# Altium footprint library Con DIN 41612.PcbLib: 47 footprints (part 3 of 3)
Each footprint in its own frame and in the unit in brackets; x right, y up, seen from the top. Pads: shape width x height; smd on the part's side, far side on the other; paste and mask are expansions set on the pad; w line width, h text height; cw(c..) or ccw(c..) is an arc to the next point about the centre after c.
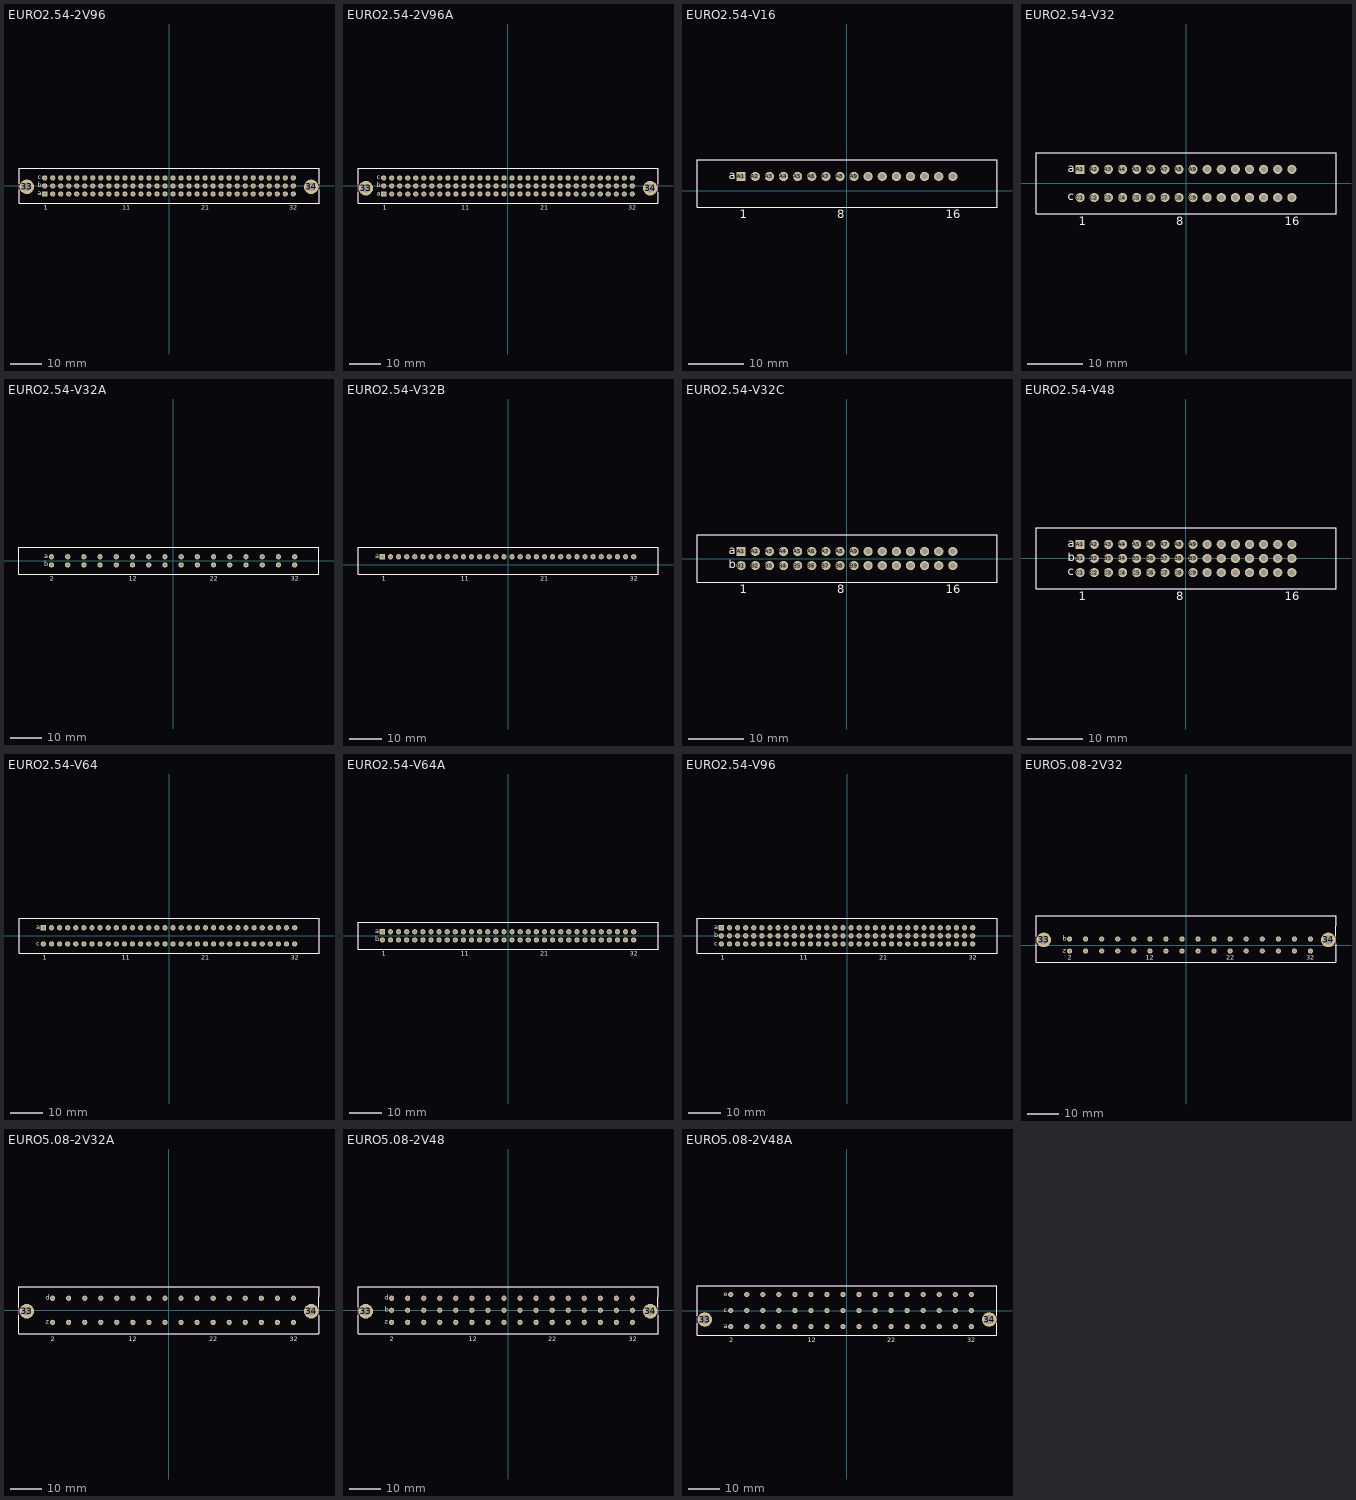
[diagram p2: the footprints below, top view; thin cyan lines are the x and y axes]

## EURO2.54-2V96 [mm] "Connector; DIN 41612, Type C, Thru-Hole; Rows a+b+c, 96 Position; Vertical"
height 11.6
pads (98):
  round 4.6 hole 2.8: 33(-45,-0.3) 34(45,-0.3)
  rect 1.65x1.65 hole 1: A1(-39.37,-2.54)
  round 1.65 hole 1: A2(-36.83,-2.54) A3(-34.29,-2.54) A4(-31.75,-2.54) A5(-29.21,-2.54) A6(-26.67,-2.54) A7(-24.13,-2.54) A8(-21.59,-2.54) A9(-19.05,-2.54) A10(-16.51,-2.54) A11(-13.97,-2.54) A12(-11.43,-2.54) A13(-8.89,-2.54) A14(-6.35,-2.54) A15(-3.81,-2.54) A16(-1.27,-2.54) A17(1.27,-2.54) A18(3.81,-2.54) A19(6.35,-2.54) A20(8.89,-2.54) A21(11.43,-2.54) A22(13.97,-2.54) A23(16.51,-2.54) A24(19.05,-2.54) A25(21.59,-2.54) A26(24.13,-2.54) A27(26.67,-2.54) A28(29.21,-2.54) A29(31.75,-2.54) A30(34.29,-2.54) A31(36.83,-2.54) A32(39.37,-2.54) B1(-39.37,0) B2(-36.83,0) B3(-34.29,0) B4(-31.75,0) B5(-29.21,0) B6(-26.67,0) B7(-24.13,0) B8(-21.59,0) B9(-19.05,0) B10(-16.51,0) B11(-13.97,0) B12(-11.43,0) B13(-8.89,0) B14(-6.35,0) B15(-3.81,0) B16(-1.27,0) B17(1.27,0) B18(3.81,0) B19(6.35,0) B20(8.89,0) B21(11.43,0) B22(13.97,0) B23(16.51,0) B24(19.05,0) B25(21.59,0) B26(24.13,0) B27(26.67,0) B28(29.21,0) B29(31.75,0) B30(34.29,0) B31(36.83,0) B32(39.37,0) C1(-39.37,2.54) C2(-36.83,2.54) C3(-34.29,2.54) C4(-31.75,2.54) C5(-29.21,2.54) C6(-26.67,2.54) C7(-24.13,2.54) C8(-21.59,2.54) C9(-19.05,2.54) C10(-16.51,2.54) C11(-13.97,2.54) C12(-11.43,2.54) C13(-8.89,2.54) C14(-6.35,2.54) C15(-3.81,2.54) C16(-1.27,2.54) C17(1.27,2.54) C18(3.81,2.54) C19(6.35,2.54) C20(8.89,2.54) C21(11.43,2.54) C22(13.97,2.54) C23(16.51,2.54) C24(19.05,2.54) C25(21.59,2.54) C26(24.13,2.54) C27(26.67,2.54) C28(29.21,2.54) C29(31.75,2.54) C30(34.29,2.54) C31(36.83,2.54) C32(39.37,2.54)
Top Overlay:
  lines w0.2: -47.5,-1.3 -47.5,-5.55 47.5,-5.55 47.5,-1.3 ; -47.5,0.7 -47.5,5.55 47.5,5.55 47.5,0.7
  text "1" at -39.62,-7.525 h1.5
  text "a" at -41.58,-3.04 h1.5
  text "b" at -41.58,-0.5 h1.5
  text "c" at -41.58,2.04 h1.5
  text "32" at 38.12,-7.525 h1.5
  text "11" at -14.82,-7.525 h1.5
  text "21" at 10.18,-7.525 h1.5
Mechanical 13:
  lines w0.1: -47.5,-5.55 -47.5,5.55 47.5,5.55 47.5,-5.55 -47.5,-5.55
3D body: height 11.6, standoff 0, extent -47.5,-5.55 47.5,5.55

## EURO2.54-2V96A [mm] "Connector; DIN 41612, Type R, Thru-Hole; Rows a+b+c, 96 Position; Vertical"
height 11.6
pads (98):
  round 4.6 hole 2.8: 33(-45,-0.73) 34(45,-0.73)
  rect 1.65x1.65 hole 1: A1(-39.37,-2.54)
  round 1.65 hole 1: A2(-36.83,-2.54) A3(-34.29,-2.54) A4(-31.75,-2.54) A5(-29.21,-2.54) A6(-26.67,-2.54) A7(-24.13,-2.54) A8(-21.59,-2.54) A9(-19.05,-2.54) A10(-16.51,-2.54) A11(-13.97,-2.54) A12(-11.43,-2.54) A13(-8.89,-2.54) A14(-6.35,-2.54) A15(-3.81,-2.54) A16(-1.27,-2.54) A17(1.27,-2.54) A18(3.81,-2.54) A19(6.35,-2.54) A20(8.89,-2.54) A21(11.43,-2.54) A22(13.97,-2.54) A23(16.51,-2.54) A24(19.05,-2.54) A25(21.59,-2.54) A26(24.13,-2.54) A27(26.67,-2.54) A28(29.21,-2.54) A29(31.75,-2.54) A30(34.29,-2.54) A31(36.83,-2.54) A32(39.37,-2.54) B1(-39.37,0) B2(-36.83,0) B3(-34.29,0) B4(-31.75,0) B5(-29.21,0) B6(-26.67,0) B7(-24.13,0) B8(-21.59,0) B9(-19.05,0) B10(-16.51,0) B11(-13.97,0) B12(-11.43,0) B13(-8.89,0) B14(-6.35,0) B15(-3.81,0) B16(-1.27,0) B17(1.27,0) B18(3.81,0) B19(6.35,0) B20(8.89,0) B21(11.43,0) B22(13.97,0) B23(16.51,0) B24(19.05,0) B25(21.59,0) B26(24.13,0) B27(26.67,0) B28(29.21,0) B29(31.75,0) B30(34.29,0) B31(36.83,0) B32(39.37,0) C1(-39.37,2.54) C2(-36.83,2.54) C3(-34.29,2.54) C4(-31.75,2.54) C5(-29.21,2.54) C6(-26.67,2.54) C7(-24.13,2.54) C8(-21.59,2.54) C9(-19.05,2.54) C10(-16.51,2.54) C11(-13.97,2.54) C12(-11.43,2.54) C13(-8.89,2.54) C14(-6.35,2.54) C15(-3.81,2.54) C16(-1.27,2.54) C17(1.27,2.54) C18(3.81,2.54) C19(6.35,2.54) C20(8.89,2.54) C21(11.43,2.54) C22(13.97,2.54) C23(16.51,2.54) C24(19.05,2.54) C25(21.59,2.54) C26(24.13,2.54) C27(26.67,2.54) C28(29.21,2.54) C29(31.75,2.54) C30(34.29,2.54) C31(36.83,2.54) C32(39.37,2.54)
Top Overlay:
  lines w0.2: -47.5,-1.93 -47.5,-5.55 47.5,-5.55 47.5,-1.93 ; -47.5,0.47 -47.5,5.55 47.5,5.55 47.5,0.47
  text "21" at 10.18,-7.5 h1.5
  text "11" at -14.82,-7.5 h1.5
  text "32" at 38.12,-7.5 h1.5
  text "c" at -41.58,2.04 h1.5
  text "b" at -41.58,-0.5 h1.5
  text "a" at -41.58,-3.04 h1.5
  text "1" at -39.62,-7.5 h1.5
Mechanical 13:
  lines w0.1: -47.5,-5.55 -47.5,5.55 47.5,5.55 47.5,-5.55 -47.5,-5.55
3D body: height 11.6, standoff 0, extent -47.5,-5.55 47.5,5.55

## EURO2.54-V16 [mm] "Connector; DIN 41612, Type 2B, Thru-Hole; Row a, 16 Position; Vertical, No Mounting Fixture"
height 13
pads (16):
  rect 1.65x1.65 hole 1: A1(-19.05,2.54)
  round 1.65 hole 1: A2(-16.51,2.54) A3(-13.97,2.54) A4(-11.43,2.54) A5(-8.89,2.54) A6(-6.35,2.54) A7(-3.81,2.54) A8(-1.27,2.54) A9(1.27,2.54) A10(3.81,2.54) A11(6.35,2.54) A12(8.89,2.54) A13(11.43,2.54) A14(13.97,2.54) A15(16.51,2.54) A16(19.05,2.54)
Top Overlay:
  lines w0.2: -27,-2.98 27,-2.98 27,5.52 -27,5.52 -27,-2.98
  text "a" at -21.26,2.04 h1.5
  text "16" at 17.8,-4.96 h1.5
  text "8" at -1.77,-4.96 h1.5
  text "1" at -19.3,-4.96 h1.5
Mechanical 13:
  lines w0.1: -27,-2.98 -27,5.52 27,5.52 27,-2.98 -27,-2.98
3D body: height 13, standoff 0, extent -27,-2.98 27,5.52

## EURO2.54-V32 [mm] "Connector; DIN 41612, Type 2C, Thru-Hole; Rows a+c, 32 Position; Vertical, No Mounting Fixture"
height 13
pads (32):
  rect 1.65x1.65 hole 1: A1(-19.05,2.54)
  round 1.65 hole 1: A2(-16.51,2.54) A3(-13.97,2.54) A4(-11.43,2.54) A5(-8.89,2.54) A6(-6.35,2.54) A7(-3.81,2.54) A8(-1.27,2.54) A9(1.27,2.54) A10(3.81,2.54) A11(6.35,2.54) A12(8.89,2.54) A13(11.43,2.54) A14(13.97,2.54) A15(16.51,2.54) A16(19.05,2.54) C1(-19.05,-2.54) C2(-16.51,-2.54) C3(-13.97,-2.54) C4(-11.43,-2.54) C5(-8.89,-2.54) C6(-6.35,-2.54) C7(-3.81,-2.54) C8(-1.27,-2.54) C9(1.27,-2.54) C10(3.81,-2.54) C11(6.35,-2.54) C12(8.89,-2.54) C13(11.43,-2.54) C14(13.97,-2.54) C15(16.51,-2.54) C16(19.05,-2.54)
Top Overlay:
  lines w0.2: -27,-5.5 27,-5.5 27,5.5 -27,5.5 -27,-5.5
  text "16" at 17.8,-7.5 h1.5
  text "8" at -1.77,-7.5 h1.5
  text "c" at -21.26,-3.04 h1.5
  text "a" at -21.26,2.04 h1.5
  text "1" at -19.3,-7.5 h1.5
Mechanical 13:
  lines w0.1: -27,-5.5 -27,5.5 27,5.5 27,-5.5 -27,-5.5
3D body: height 13, standoff 0, extent -27,-5.5 27,5.5

## EURO2.54-V32A [mm] "Connector; DIN 41612, Type B, Thru-Hole; Rows a+b, 32 Position; Vertical, No Mounting Fixture"
height 13
pads (32):
  round 1.65 hole 1: A2(-38.1,1.27) A4(-33.02,1.27) A6(-27.94,1.27) A8(-22.86,1.27) A10(-17.78,1.27) A12(-12.7,1.27) A14(-7.62,1.27) A16(-2.54,1.27) A18(2.54,1.27) A20(7.62,1.27) A22(12.7,1.27) A24(17.78,1.27) A26(22.86,1.27) A28(27.94,1.27) A30(33.02,1.27) A32(38.1,1.27) B2(-38.1,-1.27) B4(-33.02,-1.27) B6(-27.94,-1.27) B8(-22.86,-1.27) B10(-17.78,-1.27) B12(-12.7,-1.27) B14(-7.62,-1.27) B16(-2.54,-1.27) B18(2.54,-1.27) B20(7.62,-1.27) B22(12.7,-1.27) B24(17.78,-1.27) B26(22.86,-1.27) B28(27.94,-1.27) B30(33.02,-1.27) B32(38.1,-1.27)
Top Overlay:
  lines w0.2: -48.27,-4.25 -48.27,4.25 45.73,4.25 45.73,-4.25 -48.27,-4.25
  text "22" at 11.45,-6.23 h1.5
  text "12" at -13.95,-6.23 h1.5
  text "32" at 36.85,-6.23 h1.5
  text "b" at -40.31,-1.77 h1.5
  text "a" at -40.31,0.77 h1.5
  text "2" at -38.6,-6.23 h1.5
Mechanical 13:
  lines w0.1: -48.27,-4.25 -48.27,4.25 45.73,4.25 45.73,-4.25 -48.27,-4.25
3D body: height 13, standoff 0, extent -48.27,-4.25 45.73,4.25

## EURO2.54-V32B [mm] "Connector; DIN 41612, Type B, Thru-Hole; Row a, 32 Position; Vertical, No Mounting Fixture"
height 13
pads (32):
  rect 1.65x1.65 hole 1: A1(-39.37,2.54)
  round 1.65 hole 1: A2(-36.83,2.54) A3(-34.29,2.54) A4(-31.75,2.54) A5(-29.21,2.54) A6(-26.67,2.54) A7(-24.13,2.54) A8(-21.59,2.54) A9(-19.05,2.54) A10(-16.51,2.54) A11(-13.97,2.54) A12(-11.43,2.54) A13(-8.89,2.54) A14(-6.35,2.54) A15(-3.81,2.54) A16(-1.27,2.54) A17(1.27,2.54) A18(3.81,2.54) A19(6.35,2.54) A20(8.89,2.54) A21(11.43,2.54) A22(13.97,2.54) A23(16.51,2.54) A24(19.05,2.54) A25(21.59,2.54) A26(24.13,2.54) A27(26.67,2.54) A28(29.21,2.54) A29(31.75,2.54) A30(34.29,2.54) A31(36.83,2.54) A32(39.37,2.54)
Top Overlay:
  lines w0.2: -47,-2.98 47,-2.98 47,5.52 -47,5.52 -47,-2.98
  text "a" at -41.58,2.04 h1.5
  text "1" at -39.62,-4.96 h1.5
  text "32" at 38.12,-4.96 h1.5
  text "11" at -14.82,-4.96 h1.5
  text "21" at 10.18,-4.96 h1.5
Mechanical 13:
  lines w0.1: -47,-2.98 -47,5.52 47,5.52 47,-2.98 -47,-2.98
3D body: height 13, standoff 0, extent -47,-2.98 47,5.52

## EURO2.54-V32C [mm] "Connector; DIN 41612, Type 2B, Thru-Hole; Rows a+b, 32 Position; Vertical, No Mounting Fixture"
height 13
pads (32):
  rect 1.65x1.65 hole 1: A1(-19.05,1.27)
  round 1.65 hole 1: A2(-16.51,1.27) A3(-13.97,1.27) A4(-11.43,1.27) A5(-8.89,1.27) A6(-6.35,1.27) A7(-3.81,1.27) A8(-1.27,1.27) A9(1.27,1.27) A10(3.81,1.27) A11(6.35,1.27) A12(8.89,1.27) A13(11.43,1.27) A14(13.97,1.27) A15(16.51,1.27) A16(19.05,1.27) B1(-19.05,-1.27) B2(-16.51,-1.27) B3(-13.97,-1.27) B4(-11.43,-1.27) B5(-8.89,-1.27) B6(-6.35,-1.27) B7(-3.81,-1.27) B8(-1.27,-1.27) B9(1.27,-1.27) B10(3.81,-1.27) B11(6.35,-1.27) B12(8.89,-1.27) B13(11.43,-1.27) B14(13.97,-1.27) B15(16.51,-1.27) B16(19.05,-1.27)
Top Overlay:
  lines w0.2: -27,-4.25 -27,4.25 27,4.25 27,-4.25 -27,-4.25
  text "1" at -19.3,-6.23 h1.5
  text "a" at -21.26,0.77 h1.5
  text "b" at -21.26,-1.77 h1.5
  text "8" at -1.77,-6.23 h1.5
  text "16" at 17.8,-6.23 h1.5
Mechanical 13:
  lines w0.1: -27,-4.25 -27,4.25 27,4.25 27,-4.25 -27,-4.25
3D body: height 13, standoff 0, extent -27,-4.25 27,4.25

## EURO2.54-V48 [mm] "Connector; DIN 41612, Type 2C, Thru-Hole; Rows a+b+c, 48 Position; Vertical, No Mounting Fixture"
height 13
pads (48):
  rect 1.65x1.65 hole 1: A1(-19.05,2.54)
  round 1.65 hole 1: A2(-16.51,2.54) A3(-13.97,2.54) A4(-11.43,2.54) A5(-8.89,2.54) A6(-6.35,2.54) A7(-3.81,2.54) A8(-1.27,2.54) A9(1.27,2.54) A10(3.81,2.54) A11(6.35,2.54) A12(8.89,2.54) A13(11.43,2.54) A14(13.97,2.54) A15(16.51,2.54) A16(19.05,2.54) B1(-19.05,0) B2(-16.51,0) B3(-13.97,0) B4(-11.43,0) B5(-8.89,0) B6(-6.35,0) B7(-3.81,0) B8(-1.27,0) B9(1.27,0) B10(3.81,0) B11(6.35,0) B12(8.89,0) B13(11.43,0) B14(13.97,0) B15(16.51,0) B16(19.05,0) C1(-19.05,-2.54) C2(-16.51,-2.54) C3(-13.97,-2.54) C4(-11.43,-2.54) C5(-8.89,-2.54) C6(-6.35,-2.54) C7(-3.81,-2.54) C8(-1.27,-2.54) C9(1.27,-2.54) C10(3.81,-2.54) C11(6.35,-2.54) C12(8.89,-2.54) C13(11.43,-2.54) C14(13.97,-2.54) C15(16.51,-2.54) C16(19.05,-2.54)
Top Overlay:
  lines w0.2: -27,-5.5 27,-5.5 27,5.5 -27,5.5 -27,-5.5
  text "16" at 17.8,-7.5 h1.5
  text "8" at -1.77,-7.5 h1.5
  text "c" at -21.26,-3.04 h1.5
  text "b" at -21.26,-0.5 h1.5
  text "a" at -21.26,2.04 h1.5
  text "1" at -19.3,-7.5 h1.5
Mechanical 13:
  lines w0.1: -27,-5.5 -27,5.5 27,5.5 27,-5.5 -27,-5.5
3D body: height 13, standoff 0, extent -27,-5.5 27,5.5

## EURO2.54-V64 [mm] "Connector; DIN 41612, Type C, Thru-Hole; Rows a+c, 64 Position; Vertical; No Mounting Fixture"
height 13
pads (64):
  rect 1.65x1.65 hole 1: A1(-39.37,2.54)
  round 1.65 hole 1: A2(-36.83,2.54) A3(-34.29,2.54) A4(-31.75,2.54) A5(-29.21,2.54) A6(-26.67,2.54) A7(-24.13,2.54) A8(-21.59,2.54) A9(-19.05,2.54) A10(-16.51,2.54) A11(-13.97,2.54) A12(-11.43,2.54) A13(-8.89,2.54) A14(-6.35,2.54) A15(-3.81,2.54) A16(-1.27,2.54) A17(1.27,2.54) A18(3.81,2.54) A19(6.35,2.54) A20(8.89,2.54) A21(11.43,2.54) A22(13.97,2.54) A23(16.51,2.54) A24(19.05,2.54) A25(21.59,2.54) A26(24.13,2.54) A27(26.67,2.54) A28(29.21,2.54) A29(31.75,2.54) A30(34.29,2.54) A31(36.83,2.54) A32(39.37,2.54) C1(-39.37,-2.54) C2(-36.83,-2.54) C3(-34.29,-2.54) C4(-31.75,-2.54) C5(-29.21,-2.54) C6(-26.67,-2.54) C7(-24.13,-2.54) C8(-21.59,-2.54) C9(-19.05,-2.54) C10(-16.51,-2.54) C11(-13.97,-2.54) C12(-11.43,-2.54) C13(-8.89,-2.54) C14(-6.35,-2.54) C15(-3.81,-2.54) C16(-1.27,-2.54) C17(1.27,-2.54) C18(3.81,-2.54) C19(6.35,-2.54) C20(8.89,-2.54) C21(11.43,-2.54) C22(13.97,-2.54) C23(16.51,-2.54) C24(19.05,-2.54) C25(21.59,-2.54) C26(24.13,-2.54) C27(26.67,-2.54) C28(29.21,-2.54) C29(31.75,-2.54) C30(34.29,-2.54) C31(36.83,-2.54) C32(39.37,-2.54)
Top Overlay:
  lines w0.2: -47,-5.5 47,-5.5 47,5.5 -47,5.5 -47,-5.5
  text "1" at -39.62,-7.5 h1.5
  text "a" at -41.58,2.04 h1.5
  text "c" at -41.58,-3.04 h1.5
  text "32" at 38.12,-7.5 h1.5
  text "11" at -14.82,-7.5 h1.5
  text "21" at 10.18,-7.5 h1.5
Mechanical 13:
  lines w0.1: -47,-5.5 -47,5.5 47,5.5 47,-5.5 -47,-5.5
3D body: height 13, standoff 0, extent -47,-5.5 47,5.5

## EURO2.54-V64A [mm] "Connector; DIN 41612, Type B, Thru-Hole; Rows a+b, 64 Position; Vertical, No Mounting Fixture"
height 13
pads (64):
  rect 1.65x1.65 hole 1: A1(-39.37,1.27)
  round 1.65 hole 1: A2(-36.83,1.27) A3(-34.29,1.27) A4(-31.75,1.27) A5(-29.21,1.27) A6(-26.67,1.27) A7(-24.13,1.27) A8(-21.59,1.27) A9(-19.05,1.27) A10(-16.51,1.27) A11(-13.97,1.27) A12(-11.43,1.27) A13(-8.89,1.27) A14(-6.35,1.27) A15(-3.81,1.27) A16(-1.27,1.27) A17(1.27,1.27) A18(3.81,1.27) A19(6.35,1.27) A20(8.89,1.27) A21(11.43,1.27) A22(13.97,1.27) A23(16.51,1.27) A24(19.05,1.27) A25(21.59,1.27) A26(24.13,1.27) A27(26.67,1.27) A28(29.21,1.27) A29(31.75,1.27) A30(34.29,1.27) A31(36.83,1.27) A32(39.37,1.27) B1(-39.37,-1.27) B2(-36.83,-1.27) B3(-34.29,-1.27) B4(-31.75,-1.27) B5(-29.21,-1.27) B6(-26.67,-1.27) B7(-24.13,-1.27) B8(-21.59,-1.27) B9(-19.05,-1.27) B10(-16.51,-1.27) B11(-13.97,-1.27) B12(-11.43,-1.27) B13(-8.89,-1.27) B14(-6.35,-1.27) B15(-3.81,-1.27) B16(-1.27,-1.27) B17(1.27,-1.27) B18(3.81,-1.27) B19(6.35,-1.27) B20(8.89,-1.27) B21(11.43,-1.27) B22(13.97,-1.27) B23(16.51,-1.27) B24(19.05,-1.27) B25(21.59,-1.27) B26(24.13,-1.27) B27(26.67,-1.27) B28(29.21,-1.27) B29(31.75,-1.27) B30(34.29,-1.27) B31(36.83,-1.27) B32(39.37,-1.27)
Top Overlay:
  lines w0.2: -47,-4.25 -47,4.25 47,4.25 47,-4.25 -47,-4.25
  text "21" at 10.18,-6.23 h1.5
  text "11" at -14.82,-6.23 h1.5
  text "32" at 38.12,-6.23 h1.5
  text "b" at -41.58,-1.77 h1.5
  text "a" at -41.58,0.77 h1.5
  text "1" at -39.62,-6.23 h1.5
Mechanical 13:
  lines w0.1: -47,-4.25 -47,4.25 47,4.25 47,-4.25 -47,-4.25
3D body: height 13, standoff 0, extent -47,-4.25 47,4.25

## EURO2.54-V96 [mm] "Connector; DIN 41612, Type C, Thru-Hole; Rows a+b+c, 96 Position; Vertical; No Mounting Fixture"
height 13
pads (96):
  rect 1.65x1.65 hole 1: A1(-39.37,2.54)
  round 1.65 hole 1: A2(-36.83,2.54) A3(-34.29,2.54) A4(-31.75,2.54) A5(-29.21,2.54) A6(-26.67,2.54) A7(-24.13,2.54) A8(-21.59,2.54) A9(-19.05,2.54) A10(-16.51,2.54) A11(-13.97,2.54) A12(-11.43,2.54) A13(-8.89,2.54) A14(-6.35,2.54) A15(-3.81,2.54) A16(-1.27,2.54) A17(1.27,2.54) A18(3.81,2.54) A19(6.35,2.54) A20(8.89,2.54) A21(11.43,2.54) A22(13.97,2.54) A23(16.51,2.54) A24(19.05,2.54) A25(21.59,2.54) A26(24.13,2.54) A27(26.67,2.54) A28(29.21,2.54) A29(31.75,2.54) A30(34.29,2.54) A31(36.83,2.54) A32(39.37,2.54) B1(-39.37,0) B2(-36.83,0) B3(-34.29,0) B4(-31.75,0) B5(-29.21,0) B6(-26.67,0) B7(-24.13,0) B8(-21.59,0) B9(-19.05,0) B10(-16.51,0) B11(-13.97,0) B12(-11.43,0) B13(-8.89,0) B14(-6.35,0) B15(-3.81,0) B16(-1.27,0) B17(1.27,0) B18(3.81,0) B19(6.35,0) B20(8.89,0) B21(11.43,0) B22(13.97,0) B23(16.51,0) B24(19.05,0) B25(21.59,0) B26(24.13,0) B27(26.67,0) B28(29.21,0) B29(31.75,0) B30(34.29,0) B31(36.83,0) B32(39.37,0) C1(-39.37,-2.54) C2(-36.83,-2.54) C3(-34.29,-2.54) C4(-31.75,-2.54) C5(-29.21,-2.54) C6(-26.67,-2.54) C7(-24.13,-2.54) C8(-21.59,-2.54) C9(-19.05,-2.54) C10(-16.51,-2.54) C11(-13.97,-2.54) C12(-11.43,-2.54) C13(-8.89,-2.54) C14(-6.35,-2.54) C15(-3.81,-2.54) C16(-1.27,-2.54) C17(1.27,-2.54) C18(3.81,-2.54) C19(6.35,-2.54) C20(8.89,-2.54) C21(11.43,-2.54) C22(13.97,-2.54) C23(16.51,-2.54) C24(19.05,-2.54) C25(21.59,-2.54) C26(24.13,-2.54) C27(26.67,-2.54) C28(29.21,-2.54) C29(31.75,-2.54) C30(34.29,-2.54) C31(36.83,-2.54) C32(39.37,-2.54)
Top Overlay:
  lines w0.2: -47,-5.5 -47,5.5 47,5.5 47,-5.5 -47,-5.5
  text "21" at 10.18,-7.5 h1.5
  text "11" at -14.82,-7.5 h1.5
  text "32" at 38.12,-7.5 h1.5
  text "c" at -41.58,-3.04 h1.5
  text "b" at -41.58,-0.5 h1.5
  text "a" at -41.58,2.04 h1.5
  text "1" at -39.62,-7.5 h1.5
Mechanical 13:
  lines w0.1: -47,-5.5 -47,5.5 47,5.5 47,-5.5 -47,-5.5
3D body: height 13, standoff 0, extent -47,-5.5 47,5.5

## EURO5.08-2V32 [mm] "Connector; DIN 41612, Type F, Thru-Hole; Rows z+b, 32 Position; Vertical"
height 10.1
pads (34):
  round 4.6 hole 2.8: 33(-45,1.605) 34(45,1.605)
  round 1.65 hole 1: B2(-36.83,1.905) B4(-31.75,1.905) B6(-26.67,1.905) B8(-21.59,1.905) B10(-16.51,1.905) B12(-11.43,1.905) B14(-6.35,1.905) B16(-1.27,1.905) B18(3.81,1.905) B20(8.89,1.905) B22(13.97,1.905) B24(19.05,1.905) B26(24.13,1.905) B28(29.21,1.905) B30(34.29,1.905) B32(39.37,1.905) Z2(-36.83,-1.905) Z4(-31.75,-1.905) Z6(-26.67,-1.905) Z8(-21.59,-1.905) Z10(-16.51,-1.905) Z12(-11.43,-1.905) Z14(-6.35,-1.905) Z16(-1.27,-1.905) Z18(3.81,-1.905) Z20(8.89,-1.905) Z22(13.97,-1.905) Z24(19.05,-1.905) Z26(24.13,-1.905) Z28(29.21,-1.905) Z30(34.29,-1.905) Z32(39.37,-1.905)
Top Overlay:
  lines w0.2: -47.45,0.405 -47.45,-5.495 47.45,-5.495 47.45,0.405 ; -47.45,2.805 -47.45,9.305 47.45,9.305 47.448,2.805
  text "22" at 12.7,-4.61 h1.5
  text "12" at -12.7,-4.61 h1.5
  text "32" at 38.1,-4.61 h1.5
  text "b" at -39.04,1.405 h1.5
  text "z" at -39.04,-2.405 h1.5
  text "2" at -37.33,-4.61 h1.5
Mechanical 13:
  lines w0.1: -47.45,-5.495 -47.45,9.305 47.45,9.305 47.45,-5.495 -47.45,-5.495
3D body: height 10.1, standoff 0, extent -47.45,-5.495 47.45,9.305

## EURO5.08-2V32A [mm] "Connector; DIN 41612, Type F, Thru-Hole; Rows z+d, 32 Position; Vertical"
height 10.1
pads (34):
  round 4.6 hole 2.8: 33(-45,-0.3) 34(45,-0.3)
  round 1.65 hole 1: D2(-36.83,3.81) D4(-31.75,3.81) D6(-26.67,3.81) D8(-21.59,3.81) D10(-16.51,3.81) D12(-11.43,3.81) D14(-6.35,3.81) D16(-1.27,3.81) D18(3.81,3.81) D20(8.89,3.81) D22(13.97,3.81) D24(19.05,3.81) D26(24.13,3.81) D28(29.21,3.81) D30(34.29,3.81) D32(39.37,3.81) Z2(-36.83,-3.81) Z4(-31.75,-3.81) Z6(-26.67,-3.81) Z8(-21.59,-3.81) Z10(-16.51,-3.81) Z12(-11.43,-3.81) Z14(-6.35,-3.81) Z16(-1.27,-3.81) Z18(3.81,-3.81) Z20(8.89,-3.81) Z22(13.97,-3.81) Z24(19.05,-3.81) Z26(24.13,-3.81) Z28(29.21,-3.81) Z30(34.29,-3.81) Z32(39.37,-3.81)
Top Overlay:
  lines w0.2: -47.45,-1.5 -47.45,-7.4 47.45,-7.4 47.45,-1.5 ; -47.45,0.9 -47.45,7.4 47.45,7.4 47.448,0.9
  text "2" at -37.33,-9.74 h1.5
  text "z" at -39.04,-4.31 h1.5
  text "d" at -39.04,3.31 h1.5
  text "32" at 38.12,-9.74 h1.5
  text "12" at -12.68,-9.74 h1.5
  text "22" at 12.72,-9.74 h1.5
Mechanical 13:
  lines w0.1: -47.45,-7.4 -47.45,7.4 47.45,7.4 47.45,-7.4 -47.45,-7.4
3D body: height 10.1, standoff 0, extent -47.45,-7.4 47.45,7.4

## EURO5.08-2V48 [mm] "Connector; DIN 41612, Type F, Thru-Hole; Rows z+b+d, 48 Position; Vertical"
height 10.1
pads (50):
  round 4.6 hole 2.8: 33(-45,-0.3) 34(45,-0.3)
  round 1.65 hole 1: B2(-36.83,0) B4(-31.75,0) B6(-26.67,0) B8(-21.59,0) B10(-16.51,0) B12(-11.43,0) B14(-6.35,0) B16(-1.27,0) B18(3.81,0) B20(8.89,0) B22(13.97,0) B24(19.05,0) B26(24.13,0) B28(29.21,0) B30(34.29,0) B32(39.37,0) D2(-36.83,3.81) D4(-31.75,3.81) D6(-26.67,3.81) D8(-21.59,3.81) D10(-16.51,3.81) D12(-11.43,3.81) D14(-6.35,3.81) D16(-1.27,3.81) D18(3.81,3.81) D20(8.89,3.81) D22(13.97,3.81) D24(19.05,3.81) D26(24.13,3.81) D28(29.21,3.81) D30(34.29,3.81) D32(39.37,3.81) Z2(-36.83,-3.81) Z4(-31.75,-3.81) Z6(-26.67,-3.81) Z8(-21.59,-3.81) Z10(-16.51,-3.81) Z12(-11.43,-3.81) Z14(-6.35,-3.81) Z16(-1.27,-3.81) Z18(3.81,-3.81) Z20(8.89,-3.81) Z22(13.97,-3.81) Z24(19.05,-3.81) Z26(24.13,-3.81) Z28(29.21,-3.81) Z30(34.29,-3.81) Z32(39.37,-3.81)
Top Overlay:
  lines w0.2: -47.45,-1.5 -47.45,-7.4 47.45,-7.4 47.45,-1.5 ; -47.45,0.9 -47.45,7.4 47.45,7.4 47.447,0.9
  text "2" at -37.33,-9.74 h1.5
  text "z" at -39.04,-4.31 h1.5
  text "b" at -39.04,-0.5 h1.5
  text "d" at -39.04,3.31 h1.5
  text "32" at 38.12,-9.74 h1.5
  text "12" at -12.43,-9.74 h1.5
  text "22" at 12.72,-9.74 h1.5
Mechanical 13:
  lines w0.1: -47.45,-7.4 -47.45,7.4 47.45,7.4 47.45,-7.4 -47.45,-7.4
3D body: height 10.1, standoff 0, extent -47.45,-7.4 47.45,7.4

## EURO5.08-2V48A [mm] "Connector; DIN 41612, Type E, Thru-Hole; Rows a+c+e, 48 Position; Vertical"
height 11.6
pads (50):
  round 4.6 hole 2.8: 33(-45,-2.84) 34(45,-2.84)
  round 1.65 hole 1: A2(-36.83,-5.08) A4(-31.75,-5.08) A6(-26.67,-5.08) A8(-21.59,-5.08) A10(-16.51,-5.08) A12(-11.43,-5.08) A14(-6.35,-5.08) A16(-1.27,-5.08) A18(3.81,-5.08) A20(8.89,-5.08) A22(13.97,-5.08) A24(19.05,-5.08) A26(24.13,-5.08) A28(29.21,-5.08) A30(34.29,-5.08) A32(39.37,-5.08) C2(-36.83,0) C4(-31.75,0) C6(-26.67,0) C8(-21.59,0) C10(-16.51,0) C12(-11.43,0) C14(-6.35,0) C16(-1.27,0) C18(3.81,0) C20(8.89,0) C22(13.97,0) C24(19.05,0) C26(24.13,0) C28(29.21,0) C30(34.29,0) C32(39.37,0) E2(-36.83,5.08) E4(-31.75,5.08) E6(-26.67,5.08) E8(-21.59,5.08) E10(-16.51,5.08) E12(-11.43,5.08) E14(-6.35,5.08) E16(-1.27,5.08) E18(3.81,5.08) E20(8.89,5.08) E22(13.97,5.08) E24(19.05,5.08) E26(24.13,5.08) E28(29.21,5.08) E30(34.29,5.08) E32(39.37,5.08)
Top Overlay:
  lines w0.2: -47.5,-4.04 -47.5,-7.85 47.5,-7.85 47.5,-4.04 ; -47.5,-1.64 -47.5,7.85 47.5,7.85 ; 47.5,-1.64 47.5,7.84
  text "2" at -37.33,-10.04 h1.5
  text "a" at -39.04,-5.58 h1.5
  text "c" at -39.04,-0.5 h1.5
  text "e" at -39.04,4.58 h1.5
  text "32" at 38.12,-10.04 h1.5
  text "12" at -12.43,-10.04 h1.5
  text "22" at 12.72,-10.04 h1.5
Mechanical 13:
  lines w0.1: -47.5,-7.85 -47.5,7.85 47.5,7.85 47.5,-7.85 -47.5,-7.85
3D body: height 11.6, standoff 0, extent -47.5,-7.85 47.5,7.85